# Altium schematic symbol library Schlib_RGB LED.SchLib: 1 symbol
Pins are listed as number, name and electrical type; pins without a type are passive.

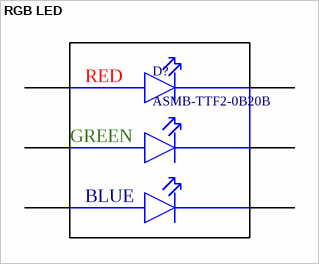
[diagram p0: symbol RGB LED]

## RGB LED
designator D?, comment ASMB-TTF2-0B20B
PLCC-6 RGB LEDs ROHS; manufactor: Broadcom Limited; ComponentLink1Description: snapeda link; ComponentLink1URL: https://www.snapeda.com/parts/ASMB-TTF2-0B20B/Broadcom%20%2F%20Avago/view-part/?ref=search&t=RGB%20led%20smd; ComponentLink2Description: datasheet; ComponentLink2URL: https://www.snapeda.com/parts/ASMB-TTF2-0B20B/Avago%20Technologies/datasheet/; ComponentLink3Description: LCSC link; ComponentLink3URL: https://www.lcsc.com/product-detail/RGB-LEDs_Broadcom-Limited-ASMB-TTF2-0B20B_C6126294.html; manufactor part number: ASMB-TTF2-0B20B; supplier: LCSC; supplier part number: C6126294
footprint PCBComponent_1
pins: 1, 2, 3, 4, 5, 6
text: RED; GREEN; BLUE